# Altium footprint library 未分类器件.PcbLib: 33 footprints (part 3 of 3)
Each footprint in its own frame and in the unit in brackets; x right, y up, seen from the top. Pads: shape width x height; smd on the part's side, far side on the other; paste and mask are expansions set on the pad; w line width, h text height; cw(c..) or ccw(c..) is an arc to the next point about the centre after c.
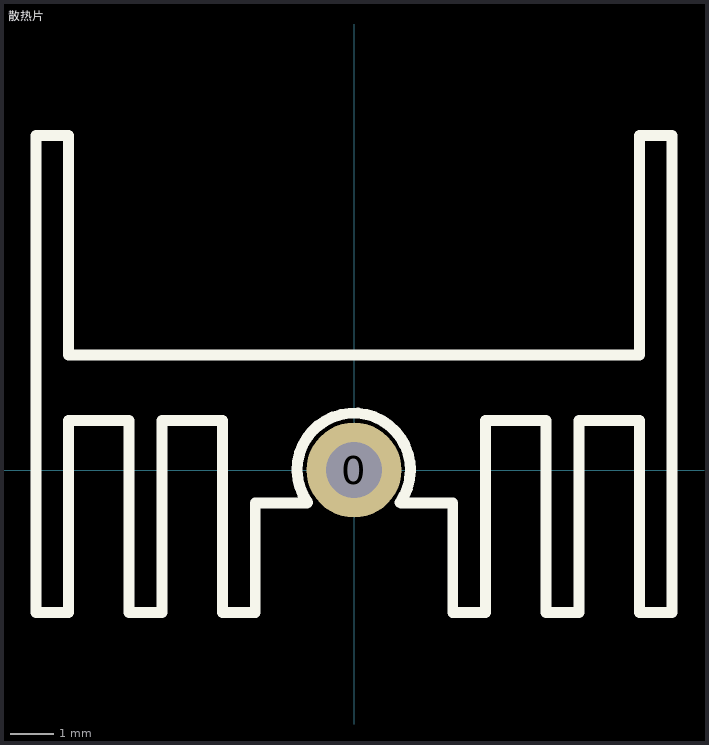
[diagram p2: the footprint, top view; thin cyan lines are the x and y axes]

## 散热片 [mm]
pads (1):
  round 2.2 hole 1.3: 0(0,0)
Top Overlay:
  lines w0.254: -1.084,-0.762 -2.286,-0.762 -2.286,-3.302 -3.048,-3.302 -3.048,1.143 -4.445,1.143 -4.445,-3.302 -5.207,-3.302 -5.207,1.143 -6.604,1.143 -6.604,-3.302 -7.366,-3.302 -7.366,7.747 -6.604,7.747 -6.604,2.667 6.604,2.667 6.604,7.747 7.366,7.747 7.366,-3.302 6.604,-3.302 6.604,1.143 5.207,1.143 5.207,-3.302 4.445,-3.302 4.445,1.143 3.048,1.143 3.048,-3.302 2.286,-3.302 2.286,-0.762 1.084,-0.762 ; -1.074,-0.755 cw(c-0.006,0.006) 1.066,-0.749
3D body "SW3dPS-heatsink TO126.STEP": height 25.13, standoff -3.67, extent -7.391,-3.268 7.391,7.533